# Altium integrated library transmitter.IntLib: 20 symbols
Pins are listed as number, name and electrical type; pins without a type are passive.

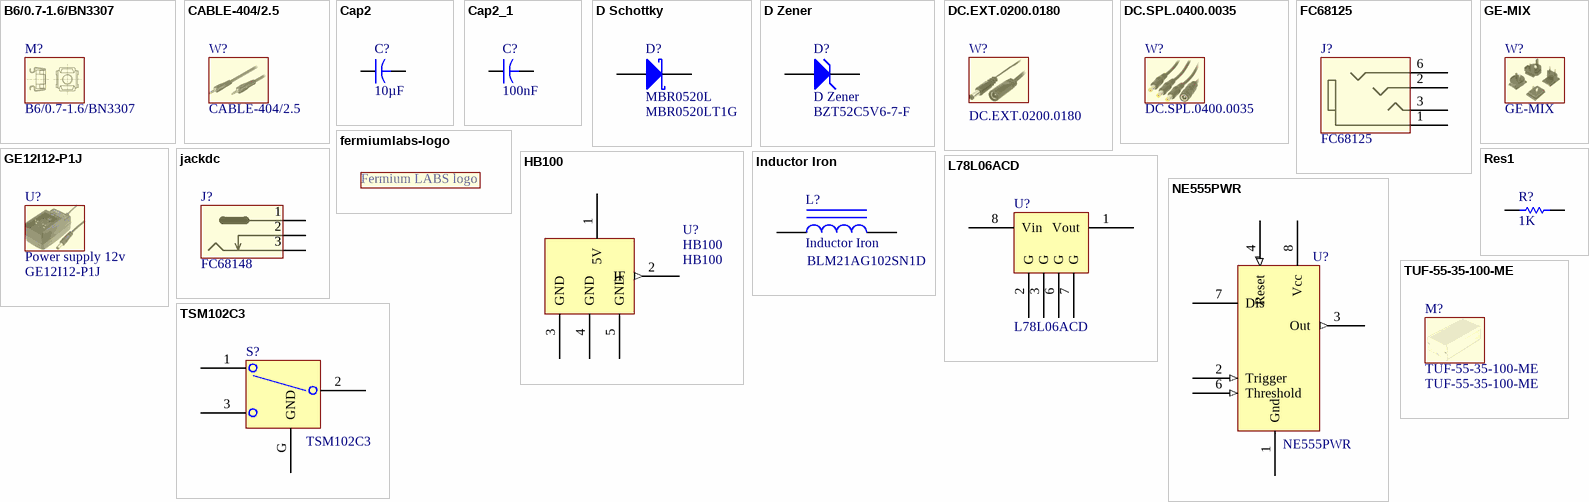
[diagram p0: symbols B6/0.7-1.6/BN3307 to TUF-55-35-100-ME]

## B6/0.7-1.6/BN3307
designator M?  (mechanical)
Supplier 1: TME; Supplier Part Number 1: B6/0.7-1.6/BN3307

## CABLE-404/2.5
designator W?  (mechanical)
Supplier 1: TME; Supplier Part Number 1: CABLE-404/2.5

## Cap2
designator C?  Capacitance: 10µF
Capacitor; Manufacturer: SAMSUNG; Manufacturer Part Number: CL31A106KAHNNNE; Unit: pcs; SuppliedAmount: 0; MinAmount: 100; Capacitor type: ceramic; Capacitor kind: MLCC; Operating voltage: 25V; Dielectric: X5R; Tolerance: ±10%; Case - inch: 1206; Case - mm: 3216; Pads: 2 SMD; Published: 23-Sep-2002; PackageReference: CAPR5-4X5; Publisher: Altium Limited; PackageDescription: 1206; Supplier 1: TME; Supplier Part Number 1: CL31A106KAHNNNE; Category: 1206 MLCC SMD Capacitors; Stock 1: 279700; Pricing 1: 100=0.0248, 300=0.0203, 1000=0.0167, 2000=0.0131, 10000=0.0127 (EUR); Weight: 0.061; Multiples: 100; Mounting: SMD; Operating temperature: -55...85°C; Price Type: NET; ComponentLink1URL: http://static.tme.eu/products_pics/b/e/9/be9e0dd298dcf4979ea1dd3d226e0bfa/58780.jpg; ComponentLink1Description: http://static.tme.eu/products_pics/b/e/9/be9e0dd298dcf4979ea1dd3d226e0bfa/58780.jpg
simulation model CAP (Capacitor)
signal-integrity model Cap
footprint 1206C-GENERIC
footprint CAP 1206/3216 (Chip Capacitor, 2-Leads, Body 3.25x1.60mm, IPC Medium Density)
pins: 1, 2

## Cap2_1
designator C?  Capacitance: 100nF
Capacitor; Manufacturer: YAGEO; Manufacturer Part Number: CC0805JRX7R9BB104; Unit: pcs; SuppliedAmount: 0; MinAmount: 100; Capacitor type: ceramic; Capacitor kind: MLCC; Operating voltage: 50V; Dielectric: X7R; Tolerance: ±5%; Case - inch: 0805; Case - mm: 2012; Pads: 2 SMD; Supplier 1: TME; Supplier Part Number 1: CC0805JRX7R9104; Category: 0805 MLCC SMD Capacitors; Stock 1: 89911; Pricing 1: 100=0.00613, 300=0.00464, 1000=0.00342, 4000=0.00284, 20000=0.00273 (EUR); Weight: 0.042; Multiples: 100; Mounting: SMD; Price Type: NET; ComponentLink1URL: http://static.tme.eu/products_pics/d/b/b/dbbd93eaf25225110ca26eb66da77328/58538.jpg; ComponentLink1Description: http://static.tme.eu/products_pics/d/b/b/dbbd93eaf25225110ca26eb66da77328/58538.jpg
simulation model CAP (Capacitor)
signal-integrity model Cap
footprint 0805C-GENERIC (CAPACITOR 0805)
footprint CAP 0805/2012 (Chip Capacitor, 2-Leads, Body 2.00x1.20mm, IPC Medium Density)
pins: 1, 2

## D Schottky
designator D?  Supplier Part Number 1: MBR0520L  Supplier Part Number 2: MBR0520LT1G
Schottky Diode; Manufacturer: FAIRCHILD SEMICONDUCTOR; Unit: pcs; SuppliedAmount: 0; MinAmount: 10; Multiples: 1; Diode type: Schottky rectifying; Off state voltage max.: 20V; Forward voltage at If: 390mV; Load current: 500mA; Pads: 2 SMD; Description: DIODE SCHOTTKY 20V 500MA SOD123; Polarity: Standard; Forward Voltage: 385mV; Max Forward Surge Current (Ifsm): 5.5A; Element Configuration: Single; Peak Reverse Current: 250uA; Published: 8-Jun-2000; LatestRevisionDate: 17-Jul-2002; LatestRevisionNote: Re-released for DXP Platform.; PackageReference: SMB; Publisher: Altium Limited; PackageDescription: DO-214-AA/SMB; 2 C-Bend Leads; Body 5.3 x 3.6 mm, inc. leads (LxW); Code_JEDEC: DO-214-AA; Supplier 1: TME; Manufacturer Part Number: MBR0520L; Category: SMD Schottky Diodes; Stock 1: 24595; Pricing 1: 10=0.0403, 50=0.0376, 250=0.0333, 1000=0.03, 3000=0.0281 (EUR); Weight: 0.032; Case: SOD123; Mounting: SMD; Price Type: NET; ComponentLink1URL: http://static.tme.eu/products_pics/e/d/b/edbd030cb344fc64745afa0f91101952/285567.jpg; ComponentLink1Description: http://static.tme.eu/products_pics/e/d/b/edbd030cb344fc64745afa0f91101952/285567.jpg; Supplier 2: TME; Stock 2: 11077; Pricing 2: 10=0.0667, 50=0.0416, 250=0.0334, 1000=0.03, 3000=0.028 (USD); Case/Package: SOD-123-2; Number of Pins: 2; Contact Plating: Tin,Matte; Min Operating Temperature: -65°C; Max Operating Temperature: 125°C; Packaging: Tape and Reel; Voltage Rating (DC): 20V; Current Rating: 500mA; Output Current: 500mA; Package Quantity: 3000; Average Rectified Current: 500mA; Max Reverse Voltage (DC): 20V; Max Surge Current: 5.5A; Forward Current: 500mA; Max Reverse Leakage Current: 250uA; Max Repetitive Reverse Voltage (Vrrm): 20V; Peak Non-Repetitive Surge Current: 5.5A; Termination: SMD/SMT; Length: 2.69mm; Height: 1.12mm; Width: 1.6mm; Radiation Hardening: No; Lead Free: Lead Free; REACH SVHC: No SVHC; ComponentLink2URL: https://datasheet.ciiva.com/915/mbr0520lt1-d-915488.pdf; ComponentLink2Description: https://datasheet.ciiva.com/915/mbr0520lt1-d-915488.pdf; ComponentLink3URL: https://datasheet.ciiva.com/14168/sy600925-e-14168052.pdf; ComponentLink3Description: https://datasheet.ciiva.com/14168/sy600925-e-14168052.pdf; ComponentLink4URL: https://datasheet.ciiva.com/915/mbr0520lt1-d-915489.pdf; ComponentLink4Description: https://datasheet.ciiva.com/915/mbr0520lt1-d-915489.pdf; ComponentLink5URL: https://datasheet.ciiva.com/915/mbr0520lt1-d-915490.pdf; ComponentLink5Description: https://datasheet.ciiva.com/915/mbr0520lt1-d-915490.pdf; ComponentLink6URL: https://datasheet.ciiva.com/7961/mbr0520lt1-d-7961765.pdf; ComponentLink6Description: https://datasheet.ciiva.com/7961/mbr0520lt1-d-7961765.pdf; ComponentLink7URL: https://datasheet.ciiva.com/25954/mbr0520lt1-d-25954134.pdf; ComponentLink7Description: https://datasheet.ciiva.com/25954/mbr0520lt1-d-25954134.pdf; ComponentLink8URL: https://datasheet.ciiva.com/5762/mbr0520lt1-d-5762889.pdf; ComponentLink8Description: https://datasheet.ciiva.com/5762/mbr0520lt1-d-5762889.pdf; ComponentLink9URL: https://datasheet.ciiva.com/16395/mbr0520lt1-d-16395977.pdf; ComponentLink9Description: https://datasheet.ciiva.com/16395/mbr0520lt1-d-16395977.pdf; ComponentLink10URL: https://datasheet.ciiva.com/16475/mbr0520lt1-d-16475465.pdf; ComponentLink10Description: https://datasheet.ciiva.com/16475/mbr0520lt1-d-16475465.pdf; ComponentLink11URL: https://datasheet.ciiva.com/29886/mbr0520lt1-d-29886377.pdf; ComponentLink11Description: https://datasheet.ciiva.com/29886/mbr0520lt1-d-29886377.pdf; ComponentLink12URL: https://datasheet.ciiva.com/7962/mbr0520lt1-d-7962698.pdf; ComponentLink12Description: https://datasheet.ciiva.com/7962/mbr0520lt1-d-7962698.pdf; ComponentLink13URL: https://datasheet.ciiva.com/14559/70099495-14559898.pdf; ComponentLink13Description: https://datasheet.ciiva.com/14559/70099495-14559898.pdf; ComponentLink14URL: https://datasheet.ciiva.com/5762/mbr0520lt1-d-5762891.pdf; ComponentLink14Description: https://datasheet.ciiva.com/5762/mbr0520lt1-d-5762891.pdf; ComponentLink15URL: https://datasheet.ciiva.com/7962/mbr0520lt1-d-7962699.pdf; ComponentLink15Description: https://datasheet.ciiva.com/7962/mbr0520lt1-d-7962699.pdf; ComponentLink16URL: https://datasheet.ciiva.com/4714/mbr0520lt1-d-94265-4714156.pdf; ComponentLink16Description: https://datasheet.ciiva.com/4714/mbr0520lt1-d-94265-4714156.pdf
simulation model SKYDIODE (Diode)
signal-integrity model D Schottky
footprint SOD123 (SOD-123; 2 Leads; Body 2.7 x 1.6 mm, (LxW))
pins: A, K

## D Zener
designator D?  Supplier Part Number 1: BZT52C5V6-7-F
Zener Diode; Manufacturer: Diodes; Max Power Dissipation: 500mW; Zener Voltage: 5.6V; Max Reverse Leakage Current: 1uA; Element Configuration: Single; Tolerance: 7%; Forward Voltage: 900mV; Impedance: 40R; Zener Current: 5mA; Output Current: 50mA; ESD Protection: No; Current: 5A; Supplier 1: TME; Manufacturer Part Number: BZT52C5V6-7-F; Stock 1: 1325; Pricing 1: 25=0.0253, 100=0.0218, 250=0.0175, 1000=0.0163, 3000=0.0153 (USD); Mount: Surface Mount; Number of Pins: 2; Weight: 0.000353oz; Contact Plating: Tin,Matte; Min Operating Temperature: -65°C; Max Operating Temperature: 150°C; Package Quantity: 3000; Packaging: Tape and Reel; Power Dissipation: 500mW; Voltage Tolerance: 7%; Test Current: 5mA; Working Voltage: 5.6V; Peak Reverse Current: 1uA; Termination: SMD/SMT; Power Rating: 500mW; Voltage Rating (DC): 5.6V; Length: 2.85mm; Height: 1.35mm; Width: 1.7mm; Radiation Hardening: No; Lead Free: Lead Free; ComponentLink1URL: https://datasheet.ciiva.com/15142/getdatasheetpartid-75147-15142419.pdf; ComponentLink1Description: https://datasheet.ciiva.com/15142/getdatasheetpartid-75147-15142419.pdf; ComponentLink2URL: https://datasheet.ciiva.com/34302/1539665-34302376.pdf; ComponentLink2Description: https://datasheet.ciiva.com/34302/1539665-34302376.pdf
simulation model ZENER (Diode)
signal-integrity model D Zener
footprint SOD123 (SOD-123; 2 Leads; Body 2.7 x 1.6 mm, (LxW))
pins: A, K

## DC.EXT.0200.0180
designator W?  (mechanical)
Supplier 1: TME; Supplier Part Number 1: DC.EXT.0200.0180

## DC.SPL.0400.0035
designator W?  (mechanical)
Supplier 1: TME; Supplier Part Number 1: DC.SPL.0400.0035

## FC68125
designator J?  Supplier Part Number 1: FC68125
Manufacturer: CLIFF; Unit: pcs; SuppliedAmount: 0; MinAmount: 2; Multiples: 1; Connector: socket; Connector type: Jack 3,5mm; Number of ways: 4; Electrical mounting: THT; Pads: 5 THT; Supplier 1: TME; Manufacturer Part Number: FC68125; Category: Jack connectors; Stock 1: 1312; Pricing 1: 2=0.41, 20=0.37, 100=0.33, 500=0.28 (USD); Weight: 0.942; Width: 7.1mm; Height: 6mm; Depth: 15.1mm; Price Type: NET; ComponentLink1URL: http://static.tme.eu/products_pics/9/3/a/93a060f269bb569398921100f84c519a/360179.jpg; ComponentLink1Description: http://static.tme.eu/products_pics/9/3/a/93a060f269bb569398921100f84c519a/360179.jpg
footprint FC68125
pins: 1, 2, 3, 6

## fermiumlabs-logo
designator XX?  (value not drawn)  (no BOM)
footprint frm-small
footprint frm-med
text: Fermium LABS logo

## GE12I12-P1J
designator U?, comment Power supply 12v  Supplier Part Number 1: GE12I12-P1J  (mechanical)
Supplier 1: TME

## GE-MIX
designator W?, comment Supplier Part Number 1: GE-MIX  (hidden comment: Worldwide plugs for power supply)  (mechanical)
Supplier 1: TME

## HB100
designator U?
Manufacturer: China unspecified; Manufacturer Part Number: HB100; Supplier 1: Alibaba; Supplier Part Number 1: HB100
footprint HB100-buried
pins: 1 5V (power), 2 IF (out), 3 GND (power), 4 GND (power), 5 GND (power)

## Inductor Iron
designator L?  Supplier Part Number 1: BLM21AG102SN1D
Magnetic-Core Inductor; Manufacturer: Murata; Core Material: Ferrite; Material: Steel,Ferrite; Impedance: 1KR; Tolerance: 25%; Max DC Current: 200mA; DC Resistance (DCR): 280mR; Max Current Rating: 600mA; Current Rating: 500mA; Test Frequency: 100MHz; Number of Lines: 1; Shielding: Unshielded; Supplier 1: TME; Manufacturer Part Number: BLM21AG102SN1D; Stock 1: 53975; Pricing 1: 25=0.068, 100=0.0551, 1000=0.0451, 4000=0.0397 (USD); Case/Package: 0805; Number of Pins: 2; Weight: 0.000194oz; Case Code (Metric): 2012; Case Code (Imperial): 0805; Min Operating Temperature: -55°C; Max Operating Temperature: 125°C; Package Quantity: 1; Packaging: Tape and Reel; Termination: SMD/SMT; DC Current: 200mA; Military Standard: Not; Frequency: 100MHz; Number of Circuits: 1; Length: 2mm; Height: 0.85mm; Depth: 1.25mm; Width: 1.25mm; Radiation Hardening: No; REACH SVHC: No SVHC; Lead Free: Lead Free; ComponentLink1URL: https://datasheet.ciiva.com/19454/1845136-19454717.pdf; ComponentLink1Description: https://datasheet.ciiva.com/19454/1845136-19454717.pdf; ComponentLink2URL: https://datasheet.ciiva.com/18093/getdatasheetpartid-139643-18093010.pdf; ComponentLink2Description: https://datasheet.ciiva.com/18093/getdatasheetpartid-139643-18093010.pdf; ComponentLink3URL: https://datasheet.ciiva.com/29347/442432-da-01-en-chip-drossel-0805-1000r-200ma-2-0x1-25mm-29347996.pdf; ComponentLink3Description: https://datasheet.ciiva.com/29347/442432-da-01-en-chip-drossel-0805-1000r-200ma-2-0x1-25mm-29347996.pdf; ComponentLink4URL: https://datasheet.ciiva.com/41449/001172322-da-01-en-drossel-0805-1000r-2-0x1-25mm-4000st-41449636.pdf; ComponentLink4Description: https://datasheet.ciiva.com/41449/001172322-da-01-en-drossel-0805-1000r-2-0x1-25mm-4000st-41449636.pdf; ComponentLink5URL: https://datasheet.ciiva.com/6212/l0110s0100blm21a-6212318.pdf; ComponentLink5Description: https://datasheet.ciiva.com/6212/l0110s0100blm21a-6212318.pdf; ComponentLink6URL: https://datasheet.ciiva.com/16286/l0110s0100blm21a-16286461.pdf; ComponentLink6Description: https://datasheet.ciiva.com/16286/l0110s0100blm21a-16286461.pdf; ComponentLink7URL: https://datasheet.ciiva.com/8021/l0110s0100blm21a-8021550.pdf; ComponentLink7Description: https://datasheet.ciiva.com/8021/l0110s0100blm21a-8021550.pdf; ComponentLink8URL: https://datasheet.ciiva.com/8021/l0110s0100blm21a-8021548.pdf; ComponentLink8Description: https://datasheet.ciiva.com/8021/l0110s0100blm21a-8021548.pdf; ComponentLink9URL: https://datasheet.ciiva.com/3081/l0110s0100blm21a-3081640.pdf; ComponentLink9Description: https://datasheet.ciiva.com/3081/l0110s0100blm21a-3081640.pdf; ComponentLink10URL: https://datasheet.ciiva.com/25903/l0110s0100blm21a-25903493.pdf; ComponentLink10Description: https://datasheet.ciiva.com/25903/l0110s0100blm21a-25903493.pdf; ComponentLink11URL: https://datasheet.ciiva.com/3082/l0110s0100blm21a-3082728.pdf; ComponentLink11Description: https://datasheet.ciiva.com/3082/l0110s0100blm21a-3082728.pdf; ComponentLink12URL: https://datasheet.ciiva.com/6212/l0110s0100blm21a-6212347.pdf; ComponentLink12Description: https://datasheet.ciiva.com/6212/l0110s0100blm21a-6212347.pdf; ComponentLink13URL: https://datasheet.ciiva.com/6212/l0110s0100blm21a-6212345.pdf; ComponentLink13Description: https://datasheet.ciiva.com/6212/l0110s0100blm21a-6212345.pdf
footprint AXIAL-0.9 (Axial Device, Thru-Hole; 2 Leads; 0.9 in Pin Spacing)
simulation model INDUCTOR (Inductor)
signal-integrity model Inductor Iron
footprint FER 0805/2012 (Chip Ferrite, 2-Leads, Body 2.00x1.20mm, IPC Medium Density)
pins: 1, 2

## jackdc
designator J?  Supplier Part Number 1: FC68148  (no BOM)
Manufacturer: CLIFF; Manufacturer Part Number: DC-10A FC68148; Unit: pcs; SuppliedAmount: 0; MinAmount: 1; Connector: socket; Connector type: DC supply; Contact size: 5,5/2,1mm; Plug outside diameter: 5.5mm; Plug inside diameter: 2.1mm; Connector variant: with on/off switch; Electrical mounting: soldering; Rated current: 5A; Rated voltage: 12V DC; Spatial orientation: angled 90°; Pads: 3 THT; Supplier 1: TME; Category: DC power connectors; Stock 1: 20287; Pricing 1: 1=0.4194, 20=0.3065, 100=0.2581, 500=0.2258 (USD); Weight: 1.733; Multiples: 1; Package type: in bulk; Price Type: NET; ComponentLink1URL: http://static.tme.eu/products_pics/f/8/e/f8eb2e1bea4ffe6692f5958f8ef9edd4/323250.jpg; ComponentLink1Description: http://static.tme.eu/products_pics/f/8/e/f8eb2e1bea4ffe6692f5958f8ef9edd4/323250.jpg
footprint dc-jack
pins: 1, 2, 3

## L78L06ACD
designator U?
Supplier 1: TME; Supplier Part Number 1: L78L06ACD
footprint ST SOIC-8N (SOIC, 8-Leads, Body 4.90x3.90mm, Pitch 1.27mm, IPC Medium Density)
pins: 1 Vout (power), 2 G (power), 3 G (power), 6 G (power), 7 G (power), 8 Vin (power)

## NE555PWR
designator U?
Supplier 1: TME; Supplier Part Number 1: NE555PWR
footprint TSSOP8
pins: 1 Gnd (power), 2 Trigger (in), 3 Out (out), 4 Reset (in), 6 Threshold (in), 7 Dis, 8 Vcc (power)

## Res1
designator R?  value 1K  (hidden comment: Res1)
Resistor; Manufacturer: Royal Electronic Factory; Manufacturer Part Number: 0805S8J0102T5E; Supplier 1: TME; Supplier Part Number 1: SMD0805-1K; Stock 1: 2713700; Pricing 1: 100=0.0062, 1000=0.0024, 5000=0.0008, 15000=0.0008, 50000=0.0008 (USD)
footprint AXIAL-0.3 (Axial Device, Thru-Hole; 2 Leads; 0.3 in Pin Spacing)
simulation model RESISTOR (Resistor)
signal-integrity model Res
footprint RES 0805/2012 (Chip Resistor, 2-Leads, Body 2.00x1.25mm, IPC Medium Density)
pins: 1, 2

## TSM102C3
designator S?
Supplier 1: TME; Supplier Part Number 1: TSM102C3
footprint TSM102C3
pins: 1, 2, 3, G GND

## TUF-55-35-100-ME
designator M?  (mechanical)
Supplier 1: TME; Supplier Part Number 1: TUF-55-35-100-ME